# Altium schematic symbol library 2020-07-05_11-00-53.SchLib: 2 symbols
Pins are listed as number, name and electrical type; pins without a type are passive.

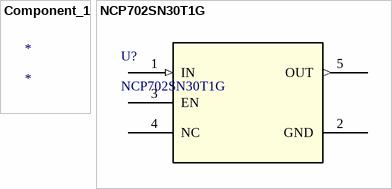
[diagram p0: symbols Component_1 to NCP702SN30T1G]

## Component_1
designator *

## NCP702SN30T1G
designator U?
No Description Available; SourceLibrary: ONSemi_2017-12-12_1; Vendor: ON Semiconductor; Copyright: Copyright (C) 2016 Accelerated Designs. All rights reserved; Manufacturer_Part_Number: NCP702SN30T1G; RefDes: RefDes; Type: DEV
footprint TSOP-5_ONS
pins: 1 IN (in), 2 GND (power), 3 EN, 4 NC, 5 OUT (out)